# Altium footprint library HRP.PcbLib: 1 footprints
Each footprint in its own frame and in the unit in brackets; x right, y up, seen from the top. Pads: shape width x height; smd on the part's side, far side on the other; paste and mask are expansions set on the pad; w line width, h text height; cw(c..) or ccw(c..) is an arc to the next point about the centre after c.
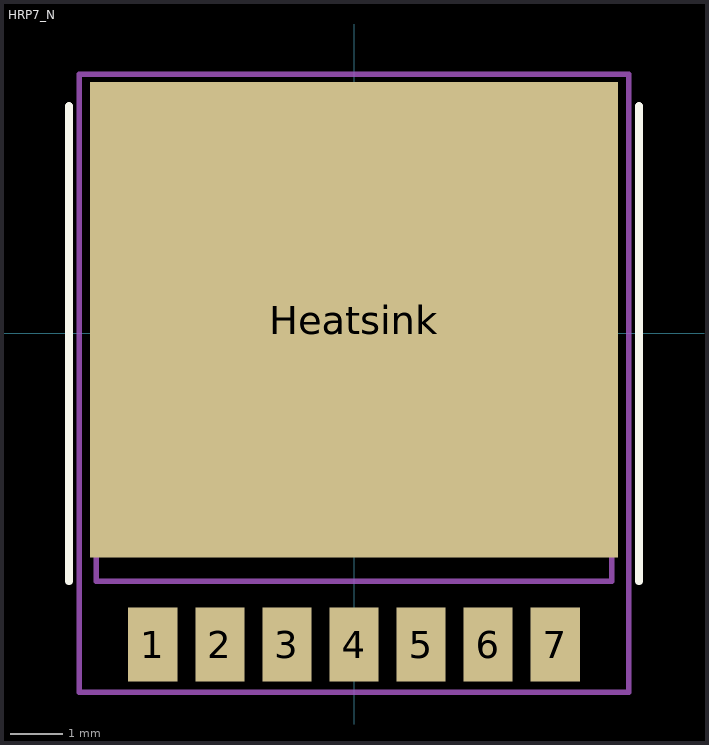
[diagram p0: the footprint, top view; thin cyan lines are the x and y axes]

## HRP7_N [mm] "HRP, 7-Leads, 1.27mm Pitch, Body 9x9.8mm, Lead Span 10.7mm, IPC Medium Density"
height 2
pads (8):
  rect 0.93x1.4 smd: 1(-3.81,-5.9) 2(-2.54,-5.9) 3(-1.27,-5.9) 4(0,-5.9) 5(1.27,-5.9) 6(2.54,-5.9) 7(3.81,-5.9)
  rect 10x9 smd: Heatsink(0,0.25)
Top Overlay:
  lines w0.15: -5.4,-4.7 -5.4,4.3 ; 5.4,-4.7 5.4,4.3
Mechanical 13:
  lines w0.1: -4.88,-4.7 4.88,-4.7 4.88,4.3 -4.88,4.3 -4.88,-4.7
Mechanical 15:
  lines w0.1: -2,0 2,0 ; 0,-2 0,2 ; -5.2,-6.8 -5.2,4.9 5.2,4.9 5.2,-6.8 -5.2,-6.8
3D body: height 2, standoff 0, extent -4.88,-4.7 4.88,4.3